# Altium footprint library 4.00-1.27mm排针-排母.PcbLib: 20 footprints (part 2 of 2)
Each footprint in its own frame and in the unit in brackets; x right, y up, seen from the top. Pads: shape width x height; smd on the part's side, far side on the other; paste and mask are expansions set on the pad; w line width, h text height; cw(c..) or ccw(c..) is an arc to the next point about the centre after c.
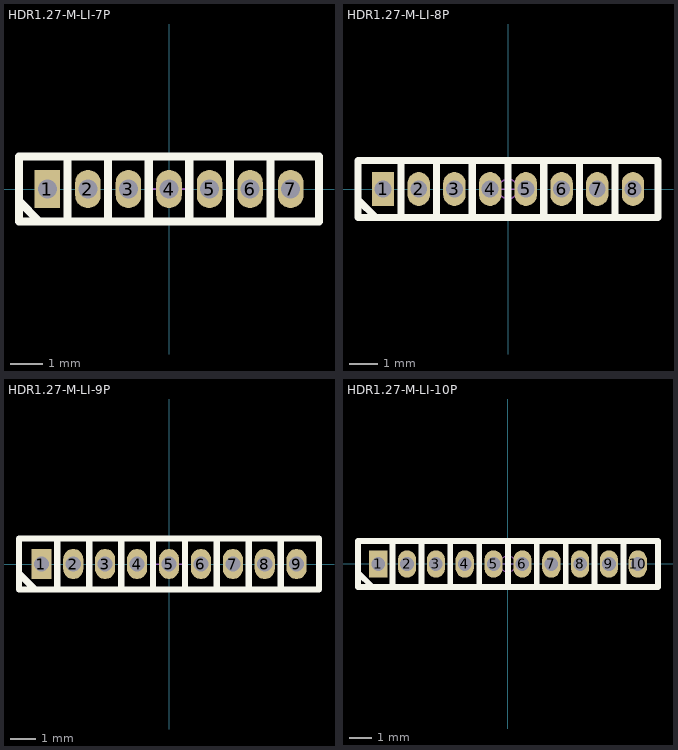
[diagram p1: the footprints below, top view; thin cyan lines are the x and y axes]

## HDR1.27-M-LI-7P [mm] "直插，脚距：1.27mm        封装库来自淘宝卖家 ID：黄晶宝石"
pads (7):
  rect 0.8x1.2 hole 0.6: 1(-3.81,0)
  oval 0.8x1.2 hole 0.6: 2(-2.54,0) 3(-1.27,0) 4(0,0) 5(1.27,0) 6(2.54,0) 7(3.81,0)
Top Overlay:
  lines w0.254: -4.699,-0.254 -4.699,-0.381 -4.064,-1.016 ; -3.175,-1.016 -3.175,1.016 ; -1.905,-1.016 -1.905,1.016 ; -0.635,-1.016 -0.635,1.016 ; 0.635,-1.016 0.635,1.016 ; 1.905,-1.016 1.905,1.016 ; 3.175,-1.016 3.175,1.016 ; -4.699,-1.016 4.699,-1.016 4.699,1.016 -4.699,1.016 -4.699,-1.016
Mechanical 15:
  circle w0.05: c0,0 r0.35
  lines w0.05: -0.5,0 0.5,0 ; 0,-0.5 0,0.5
3D body "HDR1.27-M-LI-7P.STEP": height 4.5, standoff -2.1, extent -4.61,-0.9 4.61,0.9

## HDR1.27-M-LI-8P [mm] "直插，脚距：1.27mm   封装库来自淘宝卖家 ID：黄晶宝石"
pads (8):
  rect 0.8x1.2 hole 0.6: 1(-4.445,0)
  oval 0.8x1.2 hole 0.6: 2(-3.175,0) 3(-1.905,0) 4(-0.635,0) 5(0.635,0) 6(1.905,0) 7(3.175,0) 8(4.445,0)
Top Overlay:
  lines w0.254: -5.334,-0.254 -5.334,-0.381 -4.699,-1.016 ; -3.81,-1.016 -3.81,1.016 ; -2.54,-1.016 -2.54,1.016 ; -1.27,-1.016 -1.27,1.016 ; 0,-1.016 0,1.016 ; 1.27,-1.016 1.27,1.016 ; 2.54,-1.016 2.54,1.016 ; 3.81,-1.016 3.81,1.016 ; -5.334,-1.016 -5.334,1.016 5.334,1.016 5.334,-1.016 -5.334,-1.016
Mechanical 15:
  circle w0.05: c0,0 r0.35
  lines w0.05: -0.5,0 0.5,0 ; 0,-0.5 0,0.5
3D body "HDR1.27-M-LI-8P.STEP": height 4.5, standoff -2.1, extent -5.245,-0.9 5.245,0.9

## HDR1.27-M-LI-9P [mm] "直插，脚距：1.27mm"
pads (9):
  rect 0.8x1.2 hole 0.6: 1(-5.08,0)
  oval 0.8x1.2 hole 0.6: 2(-3.81,0) 3(-2.54,0) 4(-1.27,0) 5(0,0) 6(1.27,0) 7(2.54,0) 8(3.81,0) 9(5.08,0)
Top Overlay:
  lines w0.254: -5.969,-0.254 -5.969,-0.381 -5.334,-1.016 ; -4.445,-1.016 -4.445,1.016 ; -3.175,-1.016 -3.175,1.016 ; -1.905,-1.016 -1.905,1.016 ; -0.635,-1.016 -0.635,1.016 ; 0.635,-1.016 0.635,1.016 ; 1.905,-1.016 1.905,1.016 ; 3.175,-1.016 3.175,1.016 ; 4.445,-1.016 4.445,1.016 ; -5.969,-1.016 -5.969,1.016 5.969,1.016 5.969,-1.016 -5.969,-1.016
Mechanical 15:
  circle w0.05: c0,0 r0.35
  lines w0.05: -0.5,0 0.5,0 ; 0,-0.5 0,0.5
3D body "HDR1.27-M-LI-9P.STEP": height 4.5, standoff -2.1, extent -5.88,-0.9 5.88,0.9

## HDR1.27-M-LI-10P [mm] "直插，脚距：1.27mm"
pads (10):
  rect 0.8x1.2 hole 0.6: 1(-5.715,0)
  oval 0.8x1.2 hole 0.6: 2(-4.445,0) 3(-3.175,0) 4(-1.905,0) 5(-0.635,0) 6(0.635,0) 7(1.905,0) 8(3.175,0) 9(4.445,0) 10(5.715,0)
Top Overlay:
  lines w0.254: -6.604,-0.254 -6.604,-0.381 -5.969,-1.016 ; -5.08,-1.016 -5.08,1.016 ; -3.81,-1.016 -3.81,1.016 ; -2.54,-1.016 -2.54,1.016 ; -1.27,-1.016 -1.27,1.016 ; 0,-1.016 0,1.016 ; 1.27,-1.016 1.27,1.016 ; 2.54,-1.016 2.54,1.016 ; 3.81,-1.016 3.81,1.016 ; 5.08,-1.016 5.08,1.016 ; -6.604,-1.016 6.604,-1.016 6.604,1.016 -6.604,1.016 -6.604,-1.016
Mechanical 15:
  circle w0.05: c0,0 r0.35
  lines w0.05: -0.5,0 0.5,0 ; 0,-0.5 0,0.5
3D body "HDR1.27-M-LI-10P.STEP": height 4.5, standoff -2.1, extent -6.515,-0.9 6.515,0.9